# Altium footprint library PcbLib2.PcbLib: 12 footprints
Each footprint in its own frame and in the unit in brackets; x right, y up, seen from the top. Pads: shape width x height; smd on the part's side, far side on the other; paste and mask are expansions set on the pad; w line width, h text height; cw(c..) or ccw(c..) is an arc to the next point about the centre after c.
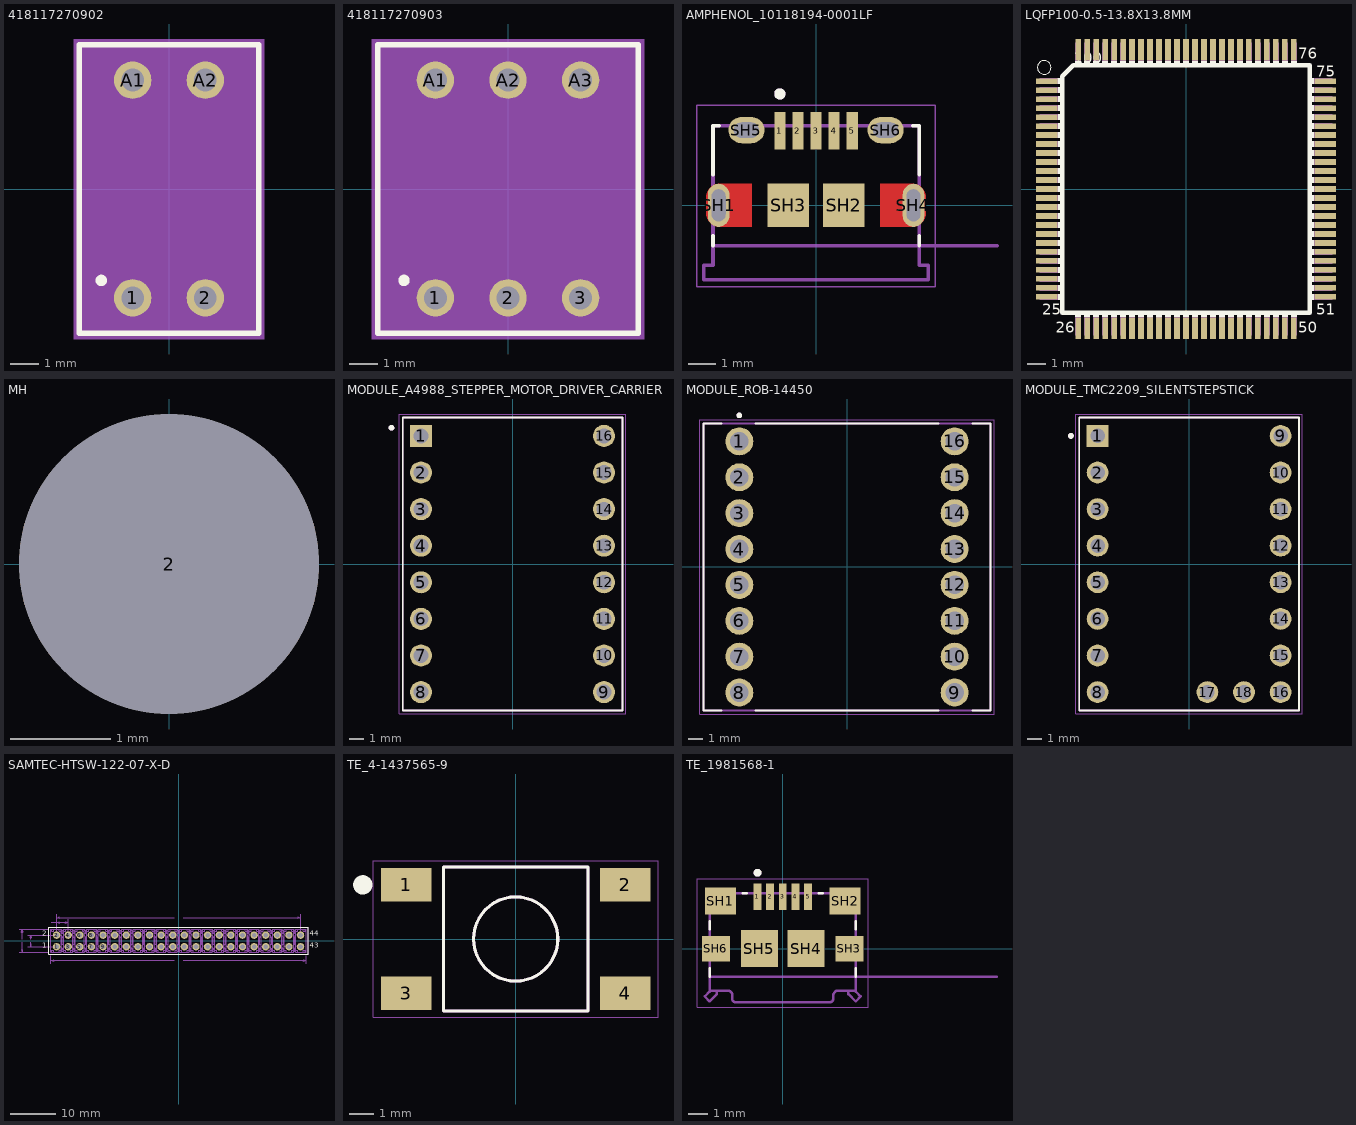
[diagram p0: the footprints below, top view; thin cyan lines are the x and y axes]

## 418117270902 [mm]
pads (4):
  round 1.308 hole 0.8: 1(-1.27,-3.81) 2(1.27,-3.81) A1(-1.27,3.81) A2(1.27,3.81)
Top Overlay:
  circle w0.2: c-2.37,-3.2 r0.1
  lines w0.2: -3.14,-5.05 3.14,-5.05 3.14,5.05 -3.14,5.05 -3.14,-5.05
Mechanical 13:
  lines w0.1: -3.04,-4.95 3.04,-4.95 3.04,4.95 -3.04,4.95 -3.04,-4.95
Mechanical 15:
  region: 3.34,-5.25 -3.34,-5.25 -3.34,5.25 3.34,5.25
3D body "step_temp.STEP": height 4.95, standoff -4.95, extent -3.04,-6.45 3.04,4.1

## 418117270903 [mm]
pads (6):
  round 1.308 hole 0.8: 1(-2.54,-3.81) 2(0,-3.81) 3(2.54,-3.81) A1(-2.54,3.81) A2(0,3.81) A3(2.54,3.81)
Top Overlay:
  circle w0.2: c-3.64,-3.2 r0.1
  lines w0.2: -4.56,-5.05 4.56,-5.05 4.56,5.05 -4.56,5.05 -4.56,-5.05
Mechanical 13:
  lines w0.1: -4.46,-4.95 4.46,-4.95 4.46,4.95 -4.46,4.95 -4.46,-4.95
Mechanical 15:
  region: 4.76,-5.25 -4.76,-5.25 -4.76,5.25 4.76,5.25
3D body "step_temp.STEP": height 4.95, standoff -4.95, extent -4.46,-6.45 4.46,4.1

## AMPHENOL_10118194-0001LF [mm]
height 2.66
pads (11):
  rect 0.4x1.35 smd: 1(-1.3,2.675) 2(-0.65,2.675) 3(0,2.675) 4(0.65,2.675) 5(1.3,2.675)
  oval 0.775x1.55 hole 0.5 slot 1.15 at 90 deg mask+0: SH1(-3.5,0) SH4(3.5,0)
  rect 1.5x1.55 smd: SH2(1,0) SH3(-1,0)
  oval 1.3x0.95 hole 0.55 slot 0.9 at 0 deg: SH5(-2.5,2.7) SH6(2.5,2.7)
Top Layer:
  region: 3.471,0.774 3.497,0.772 3.523,0.769 3.549,0.764 3.574,0.758 3.6,0.751 3.624,0.742 3.648,0.732 3.672,0.721 3.695,0.708 3.717,0.694 3.739,0.68 3.76,0.664 3.78,0.647 3.799,0.629 3.817,0.61 3.834,0.59 3.85,0.569 3.864,0.547 3.878,0.525 3.891,0.502 3.902,0.478 3.912,0.454 3.921,0.43 3.928,0.404 3.934,0.379 3.939,0.353 3.942,0.327 3.944,0.301 3.945,0.275 3.945,-0.275 3.944,-0.301 3.942,-0.327 3.939,-0.353 3.934,-0.379 3.928,-0.404 3.921,-0.43 3.912,-0.454 3.902,-0.478 3.891,-0.502 3.878,-0.525 3.864,-0.547 3.85,-0.569 3.834,-0.59 3.817,-0.61 3.799,-0.629 3.78,-0.647 3.76,-0.664 3.739,-0.68 3.717,-0.694 3.695,-0.708 3.672,-0.721 3.648,-0.732 3.624,-0.742 3.6,-0.751 3.574,-0.758 3.549,-0.764 3.523,-0.769 3.497,-0.772 3.471,-0.774 3.445,-0.775 2.3,-0.775 2.3,0.775 3.445,0.775
  region: -2.3,-0.775 -3.445,-0.775 -3.471,-0.774 -3.497,-0.772 -3.523,-0.769 -3.549,-0.764 -3.574,-0.758 -3.6,-0.751 -3.624,-0.742 -3.648,-0.732 -3.672,-0.721 -3.695,-0.708 -3.717,-0.694 -3.739,-0.68 -3.76,-0.664 -3.78,-0.647 -3.799,-0.629 -3.817,-0.61 -3.834,-0.59 -3.85,-0.569 -3.864,-0.547 -3.878,-0.525 -3.891,-0.502 -3.902,-0.478 -3.912,-0.454 -3.921,-0.43 -3.928,-0.404 -3.934,-0.379 -3.939,-0.353 -3.942,-0.327 -3.944,-0.301 -3.945,-0.275 -3.945,0.275 -3.944,0.301 -3.942,0.327 -3.939,0.353 -3.934,0.379 -3.928,0.404 -3.921,0.43 -3.912,0.454 -3.902,0.478 -3.891,0.502 -3.878,0.525 -3.864,0.547 -3.85,0.569 -3.834,0.59 -3.817,0.61 -3.799,0.629 -3.78,0.647 -3.76,0.664 -3.739,0.68 -3.717,0.694 -3.695,0.708 -3.672,0.721 -3.648,0.732 -3.624,0.742 -3.6,0.751 -3.574,0.758 -3.549,0.764 -3.523,0.769 -3.497,0.772 -3.471,0.774 -3.445,0.775 -2.3,0.775
Top Overlay:
  circle w0.2: c-1.3,4 r0.1
  lines w0.127: -3.7,-1.45 -3.7,-1.1 ; -3.7,1.1 -3.7,2.85 -3.47,2.85 ; 3.47,2.85 3.7,2.85 3.7,1.1 ; 3.7,-1.45 3.7,-1.1
Top Paste:
  region: 3.471,0.774 3.497,0.772 3.523,0.769 3.549,0.764 3.574,0.758 3.6,0.751 3.624,0.742 3.648,0.732 3.672,0.721 3.695,0.708 3.717,0.694 3.739,0.68 3.76,0.664 3.78,0.647 3.799,0.629 3.817,0.61 3.834,0.59 3.85,0.569 3.864,0.547 3.878,0.525 3.891,0.502 3.902,0.478 3.912,0.454 3.921,0.43 3.928,0.404 3.934,0.379 3.939,0.353 3.942,0.327 3.944,0.301 3.945,0.275 3.945,-0.275 3.944,-0.301 3.942,-0.327 3.939,-0.353 3.934,-0.379 3.928,-0.404 3.921,-0.43 3.912,-0.454 3.902,-0.478 3.891,-0.502 3.878,-0.525 3.864,-0.547 3.85,-0.569 3.834,-0.59 3.817,-0.61 3.799,-0.629 3.78,-0.647 3.76,-0.664 3.739,-0.68 3.717,-0.694 3.695,-0.708 3.672,-0.721 3.648,-0.732 3.624,-0.742 3.6,-0.751 3.574,-0.758 3.549,-0.764 3.523,-0.769 3.497,-0.772 3.471,-0.774 3.445,-0.775 2.3,-0.775 2.3,0.775 3.445,0.775
  region: -2.3,-0.775 -3.445,-0.775 -3.471,-0.774 -3.497,-0.772 -3.523,-0.769 -3.549,-0.764 -3.574,-0.758 -3.6,-0.751 -3.624,-0.742 -3.648,-0.732 -3.672,-0.721 -3.695,-0.708 -3.717,-0.694 -3.739,-0.68 -3.76,-0.664 -3.78,-0.647 -3.799,-0.629 -3.817,-0.61 -3.834,-0.59 -3.85,-0.569 -3.864,-0.547 -3.878,-0.525 -3.891,-0.502 -3.902,-0.478 -3.912,-0.454 -3.921,-0.43 -3.928,-0.404 -3.934,-0.379 -3.939,-0.353 -3.942,-0.327 -3.944,-0.301 -3.945,-0.275 -3.945,0.275 -3.944,0.301 -3.942,0.327 -3.939,0.353 -3.934,0.379 -3.928,0.404 -3.921,0.43 -3.912,0.454 -3.902,0.478 -3.891,0.502 -3.878,0.525 -3.864,0.547 -3.85,0.569 -3.834,0.59 -3.817,0.61 -3.799,0.629 -3.78,0.647 -3.76,0.664 -3.739,0.68 -3.717,0.694 -3.695,0.708 -3.672,0.721 -3.648,0.732 -3.624,0.742 -3.6,0.751 -3.574,0.758 -3.549,0.764 -3.523,0.769 -3.497,0.772 -3.471,0.774 -3.445,0.775 -2.3,0.775
Top Solder:
  region: 3.476,0.874 3.508,0.872 3.539,0.868 3.57,0.862 3.6,0.855 3.63,0.846 3.66,0.835 3.689,0.823 3.717,0.81 3.745,0.795 3.772,0.778 3.798,0.76 3.823,0.741 3.846,0.721 3.869,0.699 3.891,0.676 3.911,0.653 3.93,0.628 3.948,0.602 3.965,0.575 3.98,0.547 3.993,0.519 4.005,0.49 4.016,0.46 4.025,0.43 4.032,0.4 4.038,0.369 4.042,0.338 4.044,0.306 4.045,0.275 4.045,-0.275 4.044,-0.306 4.042,-0.338 4.038,-0.369 4.032,-0.4 4.025,-0.43 4.016,-0.46 4.005,-0.49 3.993,-0.519 3.98,-0.547 3.965,-0.575 3.948,-0.602 3.93,-0.628 3.911,-0.653 3.891,-0.676 3.869,-0.699 3.846,-0.721 3.823,-0.741 3.798,-0.76 3.772,-0.778 3.745,-0.795 3.717,-0.81 3.689,-0.823 3.66,-0.835 3.63,-0.846 3.6,-0.855 3.57,-0.862 3.539,-0.868 3.508,-0.872 3.476,-0.874 3.445,-0.875 2.2,-0.875 2.2,0.875 3.445,0.875
  region: -2.2,-0.875 -3.445,-0.875 -3.476,-0.874 -3.508,-0.872 -3.539,-0.868 -3.57,-0.862 -3.6,-0.855 -3.63,-0.846 -3.66,-0.835 -3.689,-0.823 -3.717,-0.81 -3.745,-0.795 -3.772,-0.778 -3.798,-0.76 -3.823,-0.741 -3.846,-0.721 -3.869,-0.699 -3.891,-0.676 -3.911,-0.653 -3.93,-0.628 -3.948,-0.602 -3.965,-0.575 -3.98,-0.547 -3.993,-0.519 -4.005,-0.49 -4.016,-0.46 -4.025,-0.43 -4.032,-0.4 -4.038,-0.369 -4.042,-0.338 -4.044,-0.306 -4.045,-0.275 -4.045,0.275 -4.044,0.306 -4.042,0.338 -4.038,0.369 -4.032,0.4 -4.025,0.43 -4.016,0.46 -4.005,0.49 -3.993,0.519 -3.98,0.547 -3.965,0.575 -3.948,0.602 -3.93,0.628 -3.911,0.653 -3.891,0.676 -3.869,0.699 -3.846,0.721 -3.823,0.741 -3.798,0.76 -3.772,0.778 -3.745,0.795 -3.717,0.81 -3.689,0.823 -3.66,0.835 -3.63,0.846 -3.6,0.855 -3.57,0.862 -3.539,0.868 -3.508,0.872 -3.476,0.874 -3.445,0.875 -2.2,0.875
Bottom Solder:
  drawing of 2 lines, arcs and shapes, not listed
Mechanical 13:
  circle w0.2: c-1.3,4 r0.1
  lines w0.127: 6.5,-1.45 -3.7,-1.45 ; -3.7,-1.45 -3.7,2.85 3.7,2.85 3.7,-2.15 4.025,-2.15 4.025,-2.68 -4.025,-2.68 -4.025,-2.15 -3.7,-2.15 -3.7,-1.45
  text "PCB EDGE" at 4.25,-1.25 h0.81
Mechanical 15:
  lines w0.05: -4.275,-2.93 4.275,-2.93 4.275,3.6 -4.275,3.6 -4.275,-2.93
3D body "step_temp.STEP": height 2.67, standoff -0.6, extent -4.025,-2.68 4.025,2.85

## LQFP100-0.5-13.8X13.8MM [mm]
pads (100):
  rect 1.2x0.32 smd: 1(-7.75,6) 2(-7.75,5.5) 3(-7.75,5) 4(-7.75,4.5) 5(-7.75,4) 6(-7.75,3.5) 7(-7.75,3) 8(-7.75,2.5) 9(-7.75,2) 10(-7.75,1.5) 11(-7.75,1) 12(-7.75,0.5) 13(-7.75,0) 14(-7.75,-0.5) 15(-7.75,-1) 16(-7.75,-1.5) 17(-7.75,-2) 18(-7.75,-2.5) 19(-7.75,-3) 20(-7.75,-3.5) 21(-7.75,-4) 22(-7.75,-4.5) 23(-7.75,-5) 24(-7.75,-5.5) 25(-7.75,-6) 51(7.75,-6) 52(7.75,-5.5) 53(7.75,-5) 54(7.75,-4.5) 55(7.75,-4) 56(7.75,-3.5) 57(7.75,-3) 58(7.75,-2.5) 59(7.75,-2) 60(7.75,-1.5) 61(7.75,-1) 62(7.75,-0.5) 63(7.75,0) 64(7.75,0.5) 65(7.75,1) 66(7.75,1.5) 67(7.75,2) 68(7.75,2.5) 69(7.75,3) 70(7.75,3.5) 71(7.75,4) 72(7.75,4.5) 73(7.75,5) 74(7.75,5.5) 75(7.75,6)
  rect 0.32x1.2 smd: 26(-6,-7.75) 27(-5.5,-7.75) 28(-5,-7.75) 29(-4.5,-7.75) 30(-4,-7.75) 31(-3.5,-7.75) 32(-3,-7.75) 33(-2.5,-7.75) 34(-2,-7.75) 35(-1.5,-7.75) 36(-1,-7.75) 37(-0.5,-7.75) 38(0,-7.75) 39(0.5,-7.75) 40(1,-7.75) 41(1.5,-7.75) 42(2,-7.75) 43(2.5,-7.75) 44(3,-7.75) 45(3.5,-7.75) 46(4,-7.75) 47(4.5,-7.75) 48(5,-7.75) 49(5.5,-7.75) 50(6,-7.75) 76(6,7.75) 77(5.5,7.75) 78(5,7.75) 79(4.5,7.75) 80(4,7.75) 81(3.5,7.75) 82(3,7.75) 83(2.5,7.75) 84(2,7.75) 85(1.5,7.75) 86(1,7.75) 87(0.5,7.75) 88(0,7.75) 89(-0.5,7.75) 90(-1,7.75) 91(-1.5,7.75) 92(-2,7.75) 93(-2.5,7.75) 94(-3,7.75) 95(-3.5,7.75) 96(-4,7.75) 97(-4.5,7.75) 98(-5,7.75) 99(-5.5,7.75) 100(-6,7.75)
Top Overlay:
  drawing of 106 lines, arcs and shapes, not listed
  text "25" at -8.007,-7.006 h0.61
  text "26" at -7.255,-8.005 h0.61
  text "50" at 6.252,-8.002 h0.61
  text "51" at 7.264,-7.013 h0.61
  text "75" at 7.251,6.251 h0.61
  text "76" at 6.254,7.255 h0.61
  text "100" at -6.262,7.013 h0.61
Mechanical 13:
  drawing of 100 lines, arcs and shapes, not listed
3D body "step_temp.STEP": height 1.6, standoff 0, extent -8,-8 8,8

## MH [mm]
pads (1):
  round 3 hole 3: 2(0,0)

## MODULE_A4988_STEPPER_MOTOR_DRIVER_CARRIER [mm]
pads (16):
  rect 1.53x1.53 hole 1.02: 1(-6.35,8.89)
  round 1.53 hole 1.02: 2(-6.35,6.35) 3(-6.35,3.81) 4(-6.35,1.27) 5(-6.35,-1.27) 6(-6.35,-3.81) 7(-6.35,-6.35) 8(-6.35,-8.89) 9(6.35,-8.89) 10(6.35,-6.35) 11(6.35,-3.81) 12(6.35,-1.27) 13(6.35,1.27) 14(6.35,3.81) 15(6.35,6.35) 16(6.35,8.89)
Top Overlay:
  circle w0.2: c-8.4,9.45 r0.1
  lines w0.127: -7.62,-10.16 7.62,-10.16 7.62,10.16 -7.62,10.16 -7.62,-10.16
Mechanical 13:
  circle w0.2: c-8.4,9.45 r0.1
  lines w0.127: -7.62,-10.16 7.62,-10.16 7.62,10.16 -7.62,10.16 -7.62,-10.16
Mechanical 15:
  lines w0.05: -7.87,-10.41 -7.87,10.41 7.87,10.41 7.87,-10.41 -7.87,-10.41

## MODULE_ROB-14450 [mm]
pads (16):
  round 1.98 hole 1.32: 1(-7.62,8.89) 2(-7.62,6.35) 3(-7.62,3.81) 4(-7.62,1.27) 5(-7.62,-1.27) 6(-7.62,-3.81) 7(-7.62,-6.35) 8(-7.62,-8.89) 9(7.62,-8.89) 10(7.62,-6.35) 11(7.62,-3.81) 12(7.62,-1.27) 13(7.62,1.27) 14(7.62,3.81) 15(7.62,6.35) 16(7.62,8.89)
Top Overlay:
  circle w0.2: c-7.62,10.728 r0.1
  lines w0.127: -8.89,-10.16 -10.16,-10.16 -10.16,10.16 -8.89,10.16 ; -6.5,-10.16 6.5,-10.16 ; -6.5,10.16 6.5,10.16 ; 8.89,-10.16 10.16,-10.16 10.16,10.16 8.89,10.16
Mechanical 13:
  circle w0.2: c-7.62,10.728 r0.1
  lines w0.127: -10.16,-10.16 10.16,-10.16 10.16,10.16 -10.16,10.16 -10.16,-10.16
Mechanical 15:
  lines w0.05: -10.41,-10.41 10.41,-10.41 10.41,10.41 -10.41,10.41 -10.41,-10.41
3D body "step_temp.STEP": height 5.5, standoff -6, extent -10.16,-10.16 10.16,10.16

## MODULE_TMC2209_SILENTSTEPSTICK [mm]
pads (18):
  rect 1.508x1.508 / inner round 1.508 / far side rect 1.508x1.508 hole 1: 1(-6.35,8.89)
  round 1.508 hole 1: 2(-6.35,6.35) 3(-6.35,3.81) 4(-6.35,1.27) 5(-6.35,-1.27) 6(-6.35,-3.81) 7(-6.35,-6.35) 8(-6.35,-8.89) 9(6.35,8.89) 10(6.35,6.35) 11(6.35,3.81) 12(6.35,1.27) 13(6.35,-1.27) 14(6.35,-3.81) 15(6.35,-6.35) 16(6.35,-8.89) 17(1.27,-8.89) 18(3.81,-8.89)
Top Overlay:
  circle w0.2: c-8.2,8.89 r0.1
  lines w0.127: -7.62,-10.16 -7.62,10.16 7.62,10.16 7.62,-10.16 -7.62,-10.16
Mechanical 13:
  circle w0.2: c-8.2,8.89 r0.1
  lines w0.127: -7.62,-10.16 -7.62,10.16 7.62,10.16 7.62,-10.16 -7.62,-10.16
Mechanical 15:
  lines w0.05: -7.87,-10.41 -7.87,10.41 7.87,10.41 7.87,-10.41 -7.87,-10.41
3D body "step_temp.STEP": height 5.5, standoff -6.1, extent -7.62,-10.16 7.62,10.16

## PCBComponent_1 [mm]

## SAMTEC-HTSW-122-07-X-D [mm]
pads (44):
  round 1.62 hole 1.02: 1(-26.67,-1.27) 2(-26.67,1.27) 3(-24.13,-1.27) 4(-24.13,1.27) 5(-21.59,-1.27) 6(-21.59,1.27) 7(-19.05,-1.27) 8(-19.05,1.27) 9(-16.51,-1.27) 10(-16.51,1.27) 11(-13.97,-1.27) 12(-13.97,1.27) 13(-11.43,-1.27) 14(-11.43,1.27) 15(-8.89,-1.27) 16(-8.89,1.27) 17(-6.35,-1.27) 18(-6.35,1.27) 19(-3.81,-1.27) 20(-3.81,1.27) 21(-1.27,-1.27) 22(-1.27,1.27) 23(1.27,-1.27) 24(1.27,1.27) 25(3.81,-1.27) 26(3.81,1.27) 27(6.35,-1.27) 28(6.35,1.27) 29(8.89,-1.27) 30(8.89,1.27) 31(11.43,-1.27) 32(11.43,1.27) 33(13.97,-1.27) 34(13.97,1.27) 35(16.51,-1.27) 36(16.51,1.27) 37(19.05,-1.27) 38(19.05,1.27) 39(21.59,-1.27) 40(21.59,1.27) 41(24.13,-1.27) 42(24.13,1.27) 43(26.67,-1.27) 44(26.67,1.27)
Top Overlay:
  lines w0.2: -28.39,-2.965 -28.39,2.965 28.39,2.965 28.39,-2.965 -28.39,-2.965
  text "1" at -29.76,-1.905 h1.97
  text "2" at -29.76,0.635 h1.97
  text "43" at 28.731,-1.905 h1.97
  text "44" at 28.731,0.635 h1.97
Mechanical 16:
  drawing of 1238 lines, arcs and shapes, not listed
  text "1" at -29.76,-1.905 h1.97
  text "2" at -29.76,0.635 h1.97
  text "43" at 28.731,-1.905 h1.97
  text "44" at 28.731,0.635 h1.97
Mechanical 40:
  lines w0: -34.889,-2.515 -28.641,-2.515 ; -34.889,2.515 -28.641,2.515 ; -34.188,-0.318 -34.188,-2.515 ; -34.188,0.318 -34.188,2.515 ; -33.023,-1.27 -27.371,-1.27 ; -33.023,1.27 -27.371,1.27 ; -32.322,-0.318 -32.322,-1.27 ; -32.322,0.318 -32.322,1.27 ; -27.94,-4.95 -27.94,-3.216 ; -27.788,4.064 -26.67,4.064 ; -26.67,4.765 -26.67,1.971 -26.67,5.781 ; -24.13,1.971 -24.13,4.765 ; -0.991,-4.249 -27.94,-4.249 ; -0.991,5.08 -26.67,5.08 ; 0.991,-4.249 27.94,-4.249 ; 0.991,5.08 26.67,5.08 ; 26.67,1.971 26.67,5.781 ; 27.94,-4.95 27.94,-3.216 ; -34.347,-1.88 -34.188,-2.515 ; -34.347,-1.88 -34.188,-2.007 ; -34.347,-1.88 -34.268,-1.943 -34.188,-2.515 ; -34.188,-2.515 -34.03,-1.88 -34.188,-2.007 ; -34.188,-2.515 -34.109,-1.943 -34.188,-2.007 ; -34.188,-2.515 -34.188,-2.007 ; -34.188,2.007 -34.347,1.88 -34.188,2.515 ; -34.188,2.007 -34.03,1.88 ; -34.188,2.007 -34.268,1.943 -34.188,2.515 ; -34.188,2.007 -34.188,2.515 ; -34.188,2.515 -34.03,1.88 ; -34.188,2.515 -34.109,1.943 -34.03,1.88 ; -32.48,-0.635 -32.322,-1.27 ; -32.48,-0.635 -32.322,-0.762 ; -32.48,-0.635 -32.401,-0.698 -32.322,-1.27 ; -32.322,-1.27 -32.163,-0.635 -32.322,-0.762 ; -32.322,-1.27 -32.242,-0.698 -32.322,-0.762 ; -32.322,-1.27 -32.322,-0.762 ; -32.322,0.762 -32.48,0.635 -32.322,1.27 ; -32.322,0.762 -32.163,0.635 ; -32.322,0.762 -32.401,0.698 -32.322,1.27 ; -32.322,0.762 -32.322,1.27 ; -32.322,1.27 -32.163,0.635 ; -32.322,1.27 -32.242,0.698 -32.163,0.635 ; -27.94,-4.249 -27.305,-4.091 ; -27.94,-4.249 -27.305,-4.408 -27.432,-4.249 ; -27.94,-4.249 -27.368,-4.329 -27.432,-4.249 ; -27.94,-4.249 -27.432,-4.249 ; -27.94,-4.249 -27.368,-4.17 -27.305,-4.091 ; -27.432,-4.249 -27.305,-4.091 ; -26.67,4.064 -26.035,4.223 ; -26.67,4.064 -26.035,3.905 -26.162,4.064 ; -26.67,4.064 -26.098,3.985 -26.162,4.064 ; -26.67,4.064 -26.162,4.064 ; -26.67,4.064 -26.098,4.143 -26.035,4.223 ; -26.67,4.064 -24.13,4.064 ; -26.67,5.08 -26.035,5.239 ; -26.67,5.08 -26.035,4.921 -26.162,5.08 ; -26.67,5.08 -26.098,5.001 -26.162,5.08 ; -26.67,5.08 -26.162,5.08 ; -26.67,5.08 -26.098,5.159 -26.035,5.239 ; -26.162,4.064 -26.035,4.223 ; -26.162,5.08 -26.035,5.239 ; -24.765,3.905 -24.13,4.064 ; -24.765,3.905 -24.638,4.064 ; -24.765,3.905 -24.702,3.985 -24.13,4.064 ; -24.638,4.064 -24.765,4.223 -24.13,4.064 ; -24.638,4.064 -24.702,4.143 -24.13,4.064 ; -24.638,4.064 -24.13,4.064 ; 26.035,4.921 26.67,5.08 ; 26.035,4.921 26.162,5.08 ; 26.035,4.921 26.098,5.001 26.67,5.08 ; 26.162,5.08 26.035,5.239 26.67,5.08 ; 26.162,5.08 26.098,5.159 26.67,5.08 ; 26.162,5.08 26.67,5.08 ; 27.305,-4.408 27.94,-4.249 ; 27.305,-4.408 27.432,-4.249 ; 27.305,-4.408 27.368,-4.329 27.94,-4.249 ; 27.432,-4.249 27.305,-4.091 27.94,-4.249 ; 27.432,-4.249 27.368,-4.17 27.94,-4.249 ; 27.432,-4.249 27.94,-4.249
  text "5.029" at -34.849,-0.127 h0.39
  text "2.540" at -32.982,-0.127 h0.39
  text "2.540" at -29.299,3.937 h0.39
  text "55.880" at -0.8,-4.376 h0.39
  text "53.340" at -0.8,4.953 h0.39
Mechanical 42:
  lines w0.1: -28.39,-2.965 -28.39,2.965 28.39,2.965 28.39,-2.965 -28.39,-2.965

## TE_4-1437565-9 [mm]
pads (4):
  rect 2.1x1.4 smd: 1(-4.55,2.25) 2(4.55,2.25) 3(-4.55,-2.25) 4(4.55,-2.25)
Top Overlay:
  circle w0.4: c-6.35,2.25 r0.2
  circle w0.127: c0,0 r1.75
  lines w0.127: -3,-2.997 -3,3 3,3 3,-3 -2.992,-3
Mechanical 13:
  circle w0.127: c0,0 r1.75
  lines w0.127: -3,-3 -3,3 3,3 3,-3 -3,-3
Mechanical 15:
  lines w0.05: -5.914,-3.25 -5.914,3.25 5.914,3.25 5.914,-3.25 -5.914,-3.25
3D body "step_temp.STEP": height 7.26, standoff 0, extent -5,-3 5,3

## TE_1981568-1 [mm]
height 3
pads (11):
  rect 0.4x1.35 smd: 1(-1.3,2.675) 2(-0.65,2.675) 3(0,2.675) 4(0.65,2.675) 5(1.3,2.675)
  rect 1.6x1.4 smd: SH1(-3.2,2.45) SH2(3.2,2.45)
  rect 1.45x1.3 smd: SH3(3.425,0) SH6(-3.425,0)
  rect 1.9x1.9 smd: SH4(1.2,0) SH5(-1.2,0)
Top Overlay:
  circle w0.2: c-1.295,3.9 r0.1
  lines w0.127: -3.75,-1.45 -3.75,-1 ; -3.75,1 -3.75,1.4 ; -2.05,2.85 -1.85,2.85 ; 1.85,2.85 2.05,2.85 ; 3.75,-1.45 3.75,-1 ; 3.75,1 3.75,1.4
Mechanical 13:
  circle w0.2: c-1.3,3.9 r0.1
  lines w0.127: -3.78,-0.45 -4,-0.45 -4,0.45 -3.76,0.45 ; -3.75,-2.2 -4,-2.45 -3.75,-2.7 -3.375,-2.325 -3.375,-2.2 ; 2.6,-2.465 2.6,-2.55 cw(c2.4,-2.55) 2.4,-2.75 -2.4,-2.75 cw(c-2.4,-2.55) -2.6,-2.55 -2.6,-2.35 ccw(c-2.8,-2.35) -2.8,-2.15 -3.75,-2.15 -3.75,-1.45 ; 2.6,-2.467 cw(c2.857,-2.408) 2.798,-2.15 ; 2.8,-2.15 3.75,-2.15 3.75,-1.45 ; 3.375,-2.2 3.375,-2.325 3.75,-2.7 4,-2.45 3.75,-2.2 ; 3.76,0.45 4,0.45 4,-0.45 3.77,-0.45 ; 11,-1.45 3.75,-1.45 ; -3.75,-1.45 -3.75,2.85 3.75,2.85 3.75,-1.45 ; -3.75,-1.45 3.75,-1.45
  text "PCB EDGE" at 4.726,-1.206 h0.81
Mechanical 15:
  lines w0.05: -4.4,-3 -4.4,3.6 4.4,3.6 4.4,-3 -4.4,-3
3D body "step_temp.STEP": height 2.81, standoff -0.27, extent -4,-2.75 4,2.85